# Altium schematic symbol library TMC2590_BOB40_V1_0.SchLib: 10 symbols
Pins are listed as number, name and electrical type; pins without a type are passive.

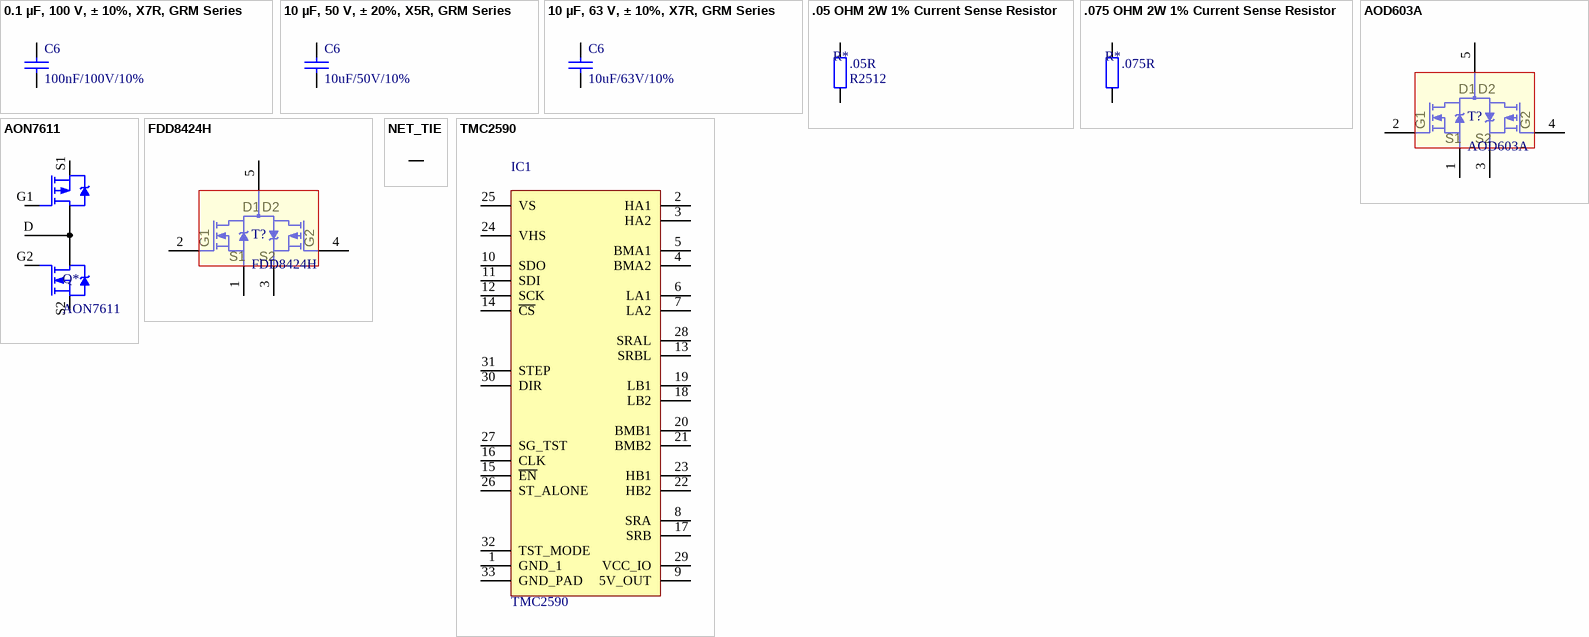
[diagram p0: symbols 0.1 µF, 100 V, ± 10%, X7R, GRM Series to TMC2590]

## 0.1 µF, 100 V, ± 10%, X7R, GRM Series
designator C6, comment 100nF/100V/10%
SMD Multilayer Ceramic Capacitor, 0603 [1608 Metric], 0.1 µF, 100 V, ± 10%, X7R, GRM Series; MPN: GRM188R72A104KA35D; Type: MLCC; VoltageRating: 100V; ComponentLinknDescription: Datasheet; MF: MURATA; Capacitance: 100nF; Characteristic: *; ComponentLinknURL: *; Precision: 10%
footprint C0402 (0402 ceramic capacitor)
footprint C0603 (0603 ceramic capacitor)
footprint C0805 (0805 ceramic capacitor)
footprint C1206 (1206 ceramic capacitor)
footprint C1210 (1210 capacitor)
footprint C1812 (1812 capacitor)
pins: 1, 2

## 10 µF, 50 V, ± 20%, X5R, GRM Series
designator C6, comment 10uF/50V/10%
SMD Multilayer Ceramic Capacitor, 1206 [3216 Metric], 10 µF, 50 V, ± 20%, X5R, GRM Series; MPN: GRM31CR61H106MA12L; Type: MLCC; VoltageRating: 50V; ComponentLinknDescription: Datasheet; MF: MURATA; Capacitance: 10uF; Precision: 10%; Characteristic: *; ComponentLinknURL: *
footprint C0402 (0402 ceramic capacitor)
footprint C0603 (0603 ceramic capacitor)
footprint C0805 (0805 ceramic capacitor)
footprint C1206 (1206 ceramic capacitor)
footprint C1210 (1210 capacitor)
footprint C1812 (1812 capacitor)
pins: 1, 2

## 10 µF, 63 V, ± 10%, X7R, GRM Series
designator C6, comment 10uF/63V/10%
SMD Multilayer Ceramic Capacitor, 1210 [3225 Metric], 10 µF, 63 V, ± 10%, X7R, GRM Series; MPN: GRM32ER71J106KA12L; Type: MLCC; VoltageRating: 63V; ComponentLinknDescription: Datasheet; MF: MURATA; Capacitance: 10uF; Characteristic: *; ComponentLinknURL: *; Precision: 10%
footprint C0402 (0402 ceramic capacitor)
footprint C0603 (0603 ceramic capacitor)
footprint C0805 (0805 ceramic capacitor)
footprint C1206 (1206 ceramic capacitor)
footprint C1210 (1210 capacitor)
footprint C1812 (1812 capacitor)
pins: 1, 2

## .05 OHM 2W 1% Current Sense Resistor
designator R*, comment Resistance: .05R  (hidden comment: .05R / 2W / 1%)
Current Sense Resistor; MPN: LRC-LR2512LF-01-R050-F; VoltageRating: *V; Temp coefficient: *ppm; ComponentLinknDescription: Datasheet; MF: IRC / TT Electronics; Precision: 1%; PowerRating: 2W; Manufacturer: *; ComponentLinknURL: *
footprint R0402 (0402 resistor)
footprint R0603 (0603 resistor)
footprint R0805 (0805 resistor)
footprint R1206 (1206 resistor)
footprint R2512 (2512 resistor)
footprint R0201 (0201 resistor)
footprint R1210 (1210 resistor)
footprint R1812 (1812 resistor)
footprint R2010 (2010 resistor)
footprint R2512 (2512 resistor)
pins: 1, 2

## .075 OHM 2W 1% Current Sense Resistor
designator R*, comment Resistance: .075R  (hidden comment: .075R / 2W / 1%)
SMD Current Sense Resistor, 0.075 ohm, 2 W, 2512 [6432 Metric], ± 1%, TLR Series; MPN: TLR3A20WR075FTDG; ComponentLinknDescription: Datasheet; MF: TE CONNECTIVITY; Precision: 1%; PowerRating: 2W; Manufacturer: *; ComponentLinknURL: *
footprint R2512 (2512 resistor)
footprint R2512 (2512 resistor)
pins: 1, 2

## AOD603A
designator T?
Transistor: N/P-MOSFET; unipolar; complementary; -60/60V; TO252-4; MF: ALPHA & OMEGA SEMICONDUCTOR; MPN: AOD603A
footprint SOT114P991X239-6N (SOT223, 6-Leads, Body 6,54x9,91mm (avg), Pitch 1,14mm, IPC Medium Density)
pins: 1 S1, 2 G1, 3 S2, 4 G2, 5 D1/D2
text: D1; D2

## AON7611
designator Q*
Mosfet Array N and P-Channel, Common Drain 30V 9A, 18.5A 1.5W Surface Mount 8-DFN (3x3); SPL1_PN: 785-1404-1-ND; MF: Alpha & Omega Semiconductor Inc.; Supplier 1: Digi-Key; MPN: AON7611
footprint AON7611
pins: D, G1, G2, S1, S2

## FDD8424H
designator T?
Dual MOSFET, N and P Channel, 9 A, 40 V, 0.019 ohm, 10 V, 1.7 V; MF: FAIRCHILD SEMICONDUCTOR; MPN: FDD8424H
footprint SOT114P991X239-6N (SOT223, 6-Leads, Body 6,54x9,91mm (avg), Pitch 1,14mm, IPC Medium Density)
pins: 1 S1, 2 G1, 3 S2, 4 G2, 5 D1/D2
text: D1; D2

## NET_TIE
designator J?, comment Net tie  (value not drawn)  (net tie, no BOM)
footprint Net tie 10x20mil
pins: 1, 2

## TMC2590
designator IC1
Energy saving high resolution microstepping two phase stepper driver with Step/Dir, SPI, up to 60V, TQFP32(5x5); MF: TRINAMIC; MPN: TMC2590
footprint TMC2590_QFP127P600-8N
pins: 1 GND_1, 2 HA1, 3 HA2, 4 BMA2, 5 BMA1, 6 LA1, 7 LA2, 8 SRA, 9 5V_OUT (power), 10 SDO, 11 SDI, 12 SCK, 13 SRBL, 14 ~{CS}, 15 ~{EN}, 16 CLK, 17 SRB, 18 LB2, 19 LB1, 20 BMB1, 21 BMB2, 22 HB2, 23 HB1, 24 VHS (power), 25 VS (power), 26 ST_ALONE, 27 SG_TST, 28 SRAL, 29 VCC_IO (power), 30 DIR, 31 STEP, 32 TST_MODE, 33 GND_PAD